# EAGLE library part BRAILLE-6 (library Braille Cell Eagle Library)
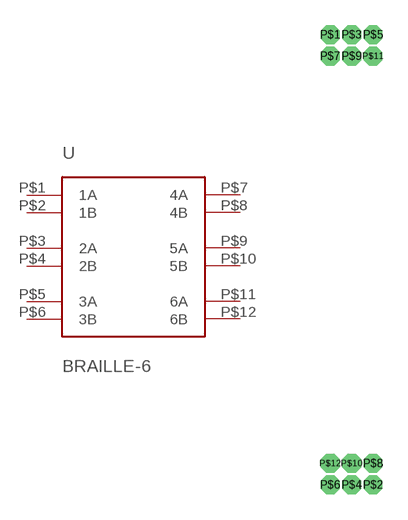
[diagram p1: symbol with the pads of BRAILLE-6; footprint BRAILLE-6]

Designator prefix -

## BRAILLE-6  [BRAILLE-6]
P$1  1A
P$2  1B
P$3  2A
P$4  2B
P$5  3A
P$6  3B
P$7  4A
P$8  4B
P$9  5A
P$10  5B
P$11  6A
P$12  6B

## Footprint BRAILLE-6 (pad centres in mm)
drill 0.6 octagon: P$1 -1.27,13.335; P$2 1.27,-13.335; P$3 0,13.335; P$4 0,-13.335; P$5 1.27,13.335; P$6 -1.27,-13.335; P$7 -1.27,12.065; P$8 1.27,-12.065; P$9 0,12.065; P$10 0,-12.065; P$11 1.27,12.065; P$12 -1.27,-12.065